# EAGLE library part ADXL335 (library harrison)
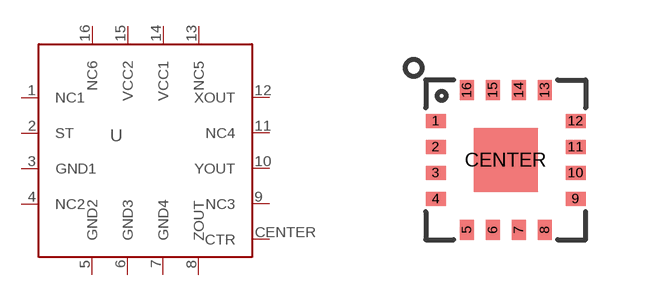
[diagram p78: symbol with the pads of ADXL335; footprint ADXL335]

Designator prefix U

## ADXL335  [ADXL335]
1  NC1  nc
2  ST  in
3  GND1  pwr
4  NC2  nc
5  GND2  pwr
6  GND3  pwr
7  GND4  pwr
8  ZOUT  out
9  NC3  nc
10  YOUT  out
11  NC4  nc
12  XOUT  out
13  NC5  nc
14  VCC1  pwr
15  VCC2  pwr
16  NC6  nc
CENTER  CTR  pas

## Footprint ADXL335 (pad centres in mm)
smd 0.5 x 0.35: 1 -1.75,0.975; 2 -1.75,0.325; 3 -1.75,-0.325; 4 -1.75,-0.975; 9 1.75,-0.975; 10 1.75,-0.325; 11 1.75,0.325; 12 1.75,0.975
smd 0.35 x 0.5: 5 -0.975,-1.75; 6 -0.325,-1.75; 7 0.325,-1.75; 8 0.975,-1.75; 13 0.975,1.75; 14 0.325,1.75; 15 -0.325,1.75; 16 -0.975,1.75
smd 1.6 x 1.6: CENTER 0,0